# Altium schematic symbol library DMP2035UQ-7.SchLib: 1 symbol
Pins are listed as number, name and electrical type; pins without a type are passive.

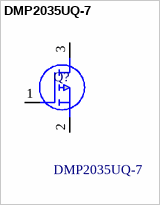
[diagram p0: symbol DMP2035UQ-7]

## DMP2035UQ-7
designator Q?
MOSFETs MOSFET BVDSS: 8V-24V SOT23 T&R 3K; Manufacturer_Name: Diodes Incorporated; Geometry.Height: 1.15mm; Manufacturer_Part_Number: DMP2035UQ-7; Mouser Part Number: 621-DMP2035UQ-7; Mouser Price/Stock: https://www.mouser.co.uk/ProductDetail/Diodes-Incorporated/DMP2035UQ-7?qs=W%2FMpXkg%252BdQ5BI1lImHV7XA%3D%3D; Arrow Part Number: DMP2035UQ-7; Arrow Price/Stock: https://www.arrow.com/en/products/dmp2035uq-7/diodes-incorporated.html?utm_currency=USD&region=europe; Datasheet Link: https://www.diodes.com/assets/Datasheets/DMP2035U.pdf
footprint SOT96P240X115-3N
pins: 1 G, 2 S, 3 D